# Altium footprint library TSOP-48.PcbLib: 1 footprints
Each footprint in its own frame and in the unit in brackets; x right, y up, seen from the top. Pads: shape width x height; smd on the part's side, far side on the other; paste and mask are expansions set on the pad; w line width, h text height; cw(c..) or ccw(c..) is an arc to the next point about the centre after c.
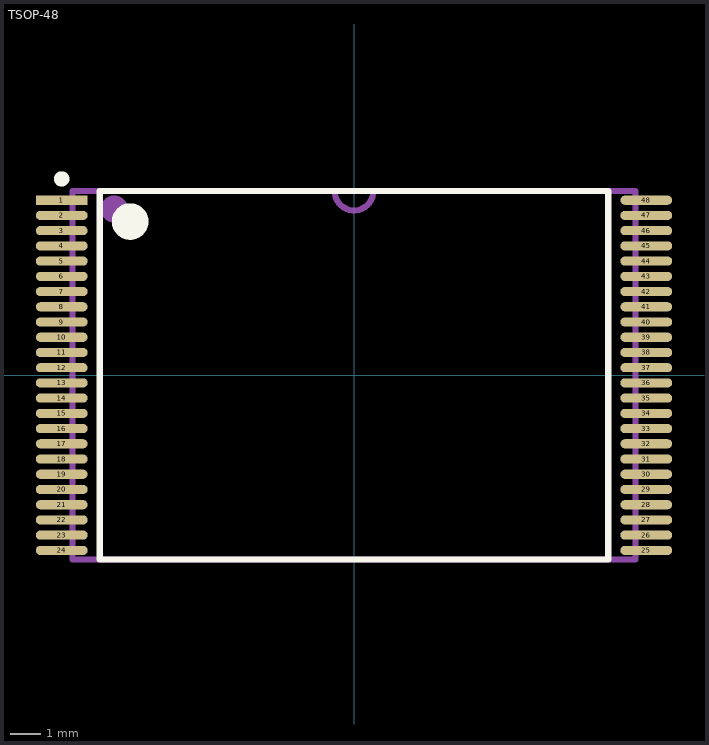
[diagram p0: the footprint, top view; thin cyan lines are the x and y axes]

## TSOP-48 [mm] "TSSOP, 48-Leads, Body 12,1x18,5mm (max), Pitch 0,50mm, IPC Medium Density"
height 1.2
pads (48):
  rect 1.7x0.3 smd: 1(-9.6,5.75)
  oval 1.7x0.3 smd: 2(-9.6,5.25) 3(-9.6,4.75) 4(-9.6,4.25) 5(-9.6,3.75) 6(-9.6,3.25) 7(-9.6,2.75) 8(-9.6,2.25) 9(-9.6,1.75) 10(-9.6,1.25) 11(-9.6,0.75) 12(-9.6,0.25) 13(-9.6,-0.25) 14(-9.6,-0.75) 15(-9.6,-1.25) 16(-9.6,-1.75) 17(-9.6,-2.25) 18(-9.6,-2.75) 19(-9.6,-3.25) 20(-9.6,-3.75) 21(-9.6,-4.25) 22(-9.6,-4.75) 23(-9.6,-5.25) 24(-9.6,-5.75) 25(9.6,-5.75) 26(9.6,-5.25) 27(9.6,-4.75) 28(9.6,-4.25) 29(9.6,-3.75) 30(9.6,-3.25) 31(9.6,-2.75) 32(9.6,-2.25) 33(9.6,-1.75) 34(9.6,-1.25) 35(9.6,-0.75) 36(9.6,-0.25) 37(9.6,0.25) 38(9.6,0.75) 39(9.6,1.25) 40(9.6,1.75) 41(9.6,2.25) 42(9.6,2.75) 43(9.6,3.25) 44(9.6,3.75) 45(9.6,4.25) 46(9.6,4.75) 47(9.6,5.25) 48(9.6,5.75)
Top Overlay:
  circle w0.6: c-7.35,5.05 r0.3
  circle w0.25: c-9.6,6.45 r0.125
  lines w0.2: -8.35,-6.05 8.35,-6.05 8.35,6.05 -8.35,6.05 -8.35,-6.05
Mechanical 13:
  circle w0.635: c-7.874,5.461 r0.127
  lines w0.2: -9.25,-6.05 9.25,-6.05 9.25,6.05 0.635,6.05 cw(c0,6.05) -0.635,6.05 -9.25,6.05 -9.25,-6.05
  text ".Designator" at -4.572,0.889 h2.5
3D body: height 1.25, standoff -0.01, extent -10.067,-6.05 10.033,6.05